# Altium schematic symbol library Amplifier_Operational.SchLib: 326 symbols (part 1 of 4)
Pins are listed as number, name and electrical type; pins without a type are passive.

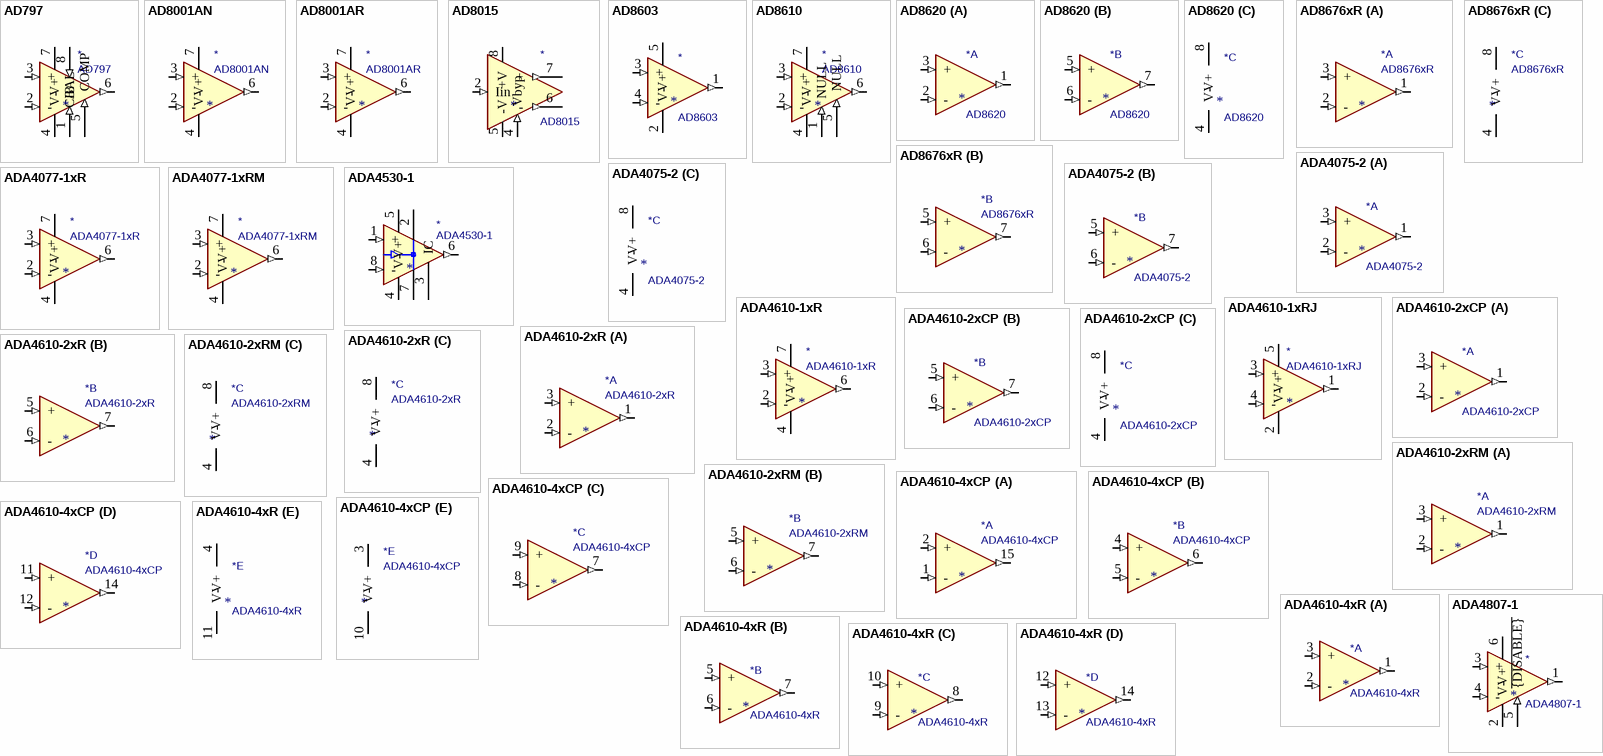
[diagram p0: symbols AD797 to ADA4807-1]

## AD797
designator *  value AD797
ki_keywords: single opamp; ki_description: Ultralow Distortion, Ultralow Noise Op Amp, DIP-8/SOIC-8; ki_fp_filters: DIP*W7.62mm* SOIC*3.9x4.9mm*P1.27mm* TO?5*; Supplier: https://www.analog.com/media/en/technical-documentation/data-sheets/AD797.pdf
pins: 1 BAL (in), 2 - (in), 3 + (in), 4 V- (power), 5 COMP (in), 6 (out), 7 V+ (power), 8 C/B (in)

## AD8001AN
designator *  value AD8001AN
ki_keywords: single opamp; ki_description: Current Feedback Amplifier, 800 MHz, 50mW, DIP-8; ki_fp_filters: DIP*W7.62mm*; Footprint: Package_DIP:DIP-8_W7.62mm; Supplier: https://www.analog.com/media/en/technical-documentation/data-sheets/ad8001.pdf
footprint DIP-8_W7.62mm
pins: 1 NC (in) hidden, 2 - (in), 3 + (in), 4 V- (power), 5 NC (in) hidden, 6 (out), 7 V+ (power), 8 NC (in) hidden

## AD8001AR
designator *  value AD8001AR
ki_keywords: single opamp; ki_description: Current Feedback Amplifier, 800 MHz, 50mW, SOIC-8; ki_fp_filters: SOIC*3.9x4.9mm*P1.27mm*; Footprint: Package_SO:SOIC-8_3.9x4.9mm_P1.27mm; Supplier: https://www.analog.com/media/en/technical-documentation/data-sheets/ad8001.pdf
footprint SOIC-8_3.9x4.9mm_P1.27mm
pins: 1 NC (in) hidden, 2 - (in), 3 + (in), 4 V- (power), 5 NC (in) hidden, 6 (out), 7 V+ (power), 8 NC (in) hidden

## AD8015
designator *  value AD8015
ki_keywords: amplifier transimpedance differential optical receiver; ki_description: Wideband/Differential Output Transimpedance Amplifier, SOIC-8; ki_fp_filters: SOIC*3.9x4.9mm*P1.27mm*; Footprint: Package_SO:SOIC-8_3.9x4.9mm_P1.27mm; Supplier: https://www.analog.com/media/en/technical-documentation/data-sheets/AD8015.pdf
footprint SOIC-8_3.9x4.9mm_P1.27mm
pins: 1 NC (in) hidden, 2 Iin (in), 3 NC (in) hidden, 4 Vbyp (in), 5 -V (power), 6 - (out), 7 + (out), 8 +V (power)

## AD8603
designator *  value AD8603
ki_keywords: single opamp; ki_description: Precision Micropower, Low Noise CMOS, Rail-to-Rail Input/Output Operational Amplifier, TSOT-23-5; ki_fp_filters: TSOT*23*; Footprint: Package_TO_SOT_SMD:TSOT-23-5; Supplier: https://www.analog.com/media/en/technical-documentation/data-sheets/AD8603_8607_8609.pdf
footprint TSOT-23-5
pins: 1 (out), 2 V- (power), 3 + (in), 4 - (in), 5 V+ (power)

## AD8610
designator *  value AD8610
ki_keywords: single opamp; ki_description: Single Precision, Very Low Noise, Low Input Bias Current, Wide Bandwidth JFET Operational Amplifiers, SOIC-8; ki_fp_filters: SOIC*3.9x4.9mm*P1.27mm* DIP*W7.62mm* TSSOP*3x3mm*P0.65mm*; Supplier: https://www.analog.com/media/en/technical-documentation/data-sheets/AD8610_8620.pdf
pins: 1 NULL (in), 2 - (in), 3 + (in), 4 V- (power), 5 NULL (in), 6 (out), 7 V+ (power), 8 NC (in) hidden

## AD8620
designator *  value AD8620
ki_keywords: dual opamp; ki_description: Dual Precision, Very Low Noise, Low Input Bias Current, Wide Bandwidth JFET Operational Amplifiers, SOIC-8; ki_fp_filters: SOIC*3.9x4.9mm*P1.27mm* DIP*W7.62mm* TO*99* OnSemi*Micro8* TSSOP*3x3mm*P0.65mm* TSSOP*4.4x3mm*P0.65mm* MSOP*3x3mm*P0.65mm* SSOP*3.9x4.9mm*P0.635mm* LFCSP*2x2mm*P0.5mm* *SIP* SOIC*5.3x6.2mm*P1.27mm*; Supplier: https://www.analog.com/media/en/technical-documentation/data-sheets/AD8610_8620.pdf
part A pins: 1 (out), 2 - (in), 3 + (in)
part B pins: 5 + (in), 6 - (in), 7 (out)
part C pins: 4 V- (power), 8 V+ (power)

## AD8676xR
designator *  value AD8676xR
ki_keywords: dual opamp precision high-voltage RRO RTR; ki_description: Dual operational amplifier, Ultra-precision, 36V, Rail-to-rail output, SOIC-8; ki_fp_filters: SOIC*3.9x4.9mm*P1.27mm*; Footprint: Package_SO:SOIC-8_3.9x4.9mm_P1.27mm; Supplier: https://www.analog.com/media/en/technical-documentation/data-sheets/AD8676.pdf
footprint SOIC-8_3.9x4.9mm_P1.27mm
part A pins: 1 (out), 2 - (in), 3 + (in)
part B pins: 5 + (in), 6 - (in), 7 (out)
part C pins: 4 V- (power), 8 V+ (power)

## ADA4075-2
designator *  value ADA4075-2
ki_keywords: dual low-power opamp; ki_description: Ultralow Noise Amplifier at Lower Power, SOIC-8/LFCSP-8; ki_fp_filters: SOIC*3.9x4.9mm*P1.27mm* DIP*W7.62mm* TO*99* OnSemi*Micro8* TSSOP*3x3mm*P0.65mm* TSSOP*4.4x3mm*P0.65mm* MSOP*3x3mm*P0.65mm* SSOP*3.9x4.9mm*P0.635mm* LFCSP*2x2mm*P0.5mm* *SIP* SOIC*5.3x6.2mm*P1.27mm*; Supplier: https://www.analog.com/static/imported-files/data_sheets/ADA4075-2.pdf
part A pins: 1 (out), 2 - (in), 3 + (in)
part B pins: 5 + (in), 6 - (in), 7 (out)
part C pins: 4 V- (power), 8 V+ (power)

## ADA4077-1xR
designator *  value ADA4077-1xR
ki_keywords: single opamp; ki_description: 4MHz, 7nV/sqrtHz, Low Offset and Drift, High Precision Amplifier, SOIC-8; ki_fp_filters: SOIC*3.9x4.9mm*P1.27mm*; Footprint: Package_SO:SOIC-8_3.9x4.9mm_P1.27mm; Supplier: https://www.analog.com/media/en/technical-documentation/data-sheets/ADA4077-1_4077-2_4077-4.pdf
footprint SOIC-8_3.9x4.9mm_P1.27mm
pins: 1 NC (in) hidden, 2 - (in), 3 + (in), 4 V- (power), 5 NC (in) hidden, 6 (out), 7 V+ (power), 8 NC (in) hidden

## ADA4077-1xRM
designator *  value ADA4077-1xRM
ki_keywords: single opamp; ki_description: 4MHz, 7nV/sqrtHz, Low Offset and Drift, High Precision Amplifier, MSOP-8; ki_fp_filters: MSOP*3x3mm*P0.65mm*; Footprint: Package_SO:MSOP-8_3x3mm_P0.65mm; Supplier: https://www.analog.com/media/en/technical-documentation/data-sheets/ADA4077-1_4077-2_4077-4.pdf
footprint MSOP-8_3x3mm_P0.65mm
pins: 1 NC (in) hidden, 2 - (in), 3 + (in), 4 V- (power), 5 NC (in) hidden, 6 (out), 7 V+ (power), 8 NC (in) hidden

## ADA4530-1
designator *  value ADA4530-1
ki_keywords: single opamp; ki_description: Femtoampere Input Bias Current Electrometer Amplifier, SOIC-8; ki_fp_filters: SOIC*3.9x4.9mm*P1.27mm*; Footprint: Package_SO:SOIC-8_3.9x4.9mm_P1.27mm; Supplier: https://www.analog.com/media/en/technical-documentation/data-sheets/ADA4530-1.pdf
footprint SOIC-8_3.9x4.9mm_P1.27mm
pins: 1 + (in), 2, 3 IC, 4 V- (power), 5 V+ (power), 6 (out), 7, 8 - (in)

## ADA4610-1xR
designator *  value ADA4610-1xR
ki_keywords: single opamp; ki_description: Low Noise, Precision, Rail-to-Rail Output, JFET Single Op Amp, SOIC-8; ki_fp_filters: SOIC*3.9x4.9mm*P1.27mm*; Footprint: Package_SO:SOIC-8_3.9x4.9mm_P1.27mm; Supplier: https://www.analog.com/media/en/technical-documentation/data-sheets/ADA4610-1_4610-2_4610-4.pdf
footprint SOIC-8_3.9x4.9mm_P1.27mm
pins: 1 NC (in) hidden, 2 - (in), 3 + (in), 4 V- (power), 5 NC (in) hidden, 6 (out), 7 V+ (power), 8 NC (in) hidden

## ADA4610-1xRJ
designator *  value ADA4610-1xRJ
ki_keywords: single opamp; ki_description: Low Noise, Precision, Rail-to-Rail Output, JFET Single Op Amp, SOT-23-5; ki_fp_filters: SOT?23*; Footprint: Package_TO_SOT_SMD:SOT-23-5; Supplier: https://www.analog.com/media/en/technical-documentation/data-sheets/ADA4610-1_4610-2_4610-4.pdf
footprint SOT-23-5
pins: 1 (out), 2 V- (power), 3 + (in), 4 - (in), 5 V+ (power)

## ADA4610-2xCP
designator *  value ADA4610-2xCP
ki_keywords: dual opamp; ki_description: Dual Low Noise, Precision, Rail-to-Rail Output, JFET Op Amp, LFCSP-8; ki_fp_filters: LFCSP*3x3mm*P0.5mm*EP1.6x2.34mm*; Footprint: Package_CSP:LFCSP-8-1EP_3x3mm_P0.5mm_EP1.6x2.34mm; Supplier: https://www.analog.com/media/en/technical-documentation/data-sheets/ADA4610-1_4610-2_4610-4.pdf
footprint LFCSP-8-1EP_3x3mm_P0.5mm_EP1.6x2.34mm
part A pins: 1 (out), 2 - (in), 3 + (in)
part B pins: 5 + (in), 6 - (in), 7 (out)
part C pins: 4 V- (power), 8 V+ (power), 9 V- hidden

## ADA4610-2xR
designator *  value ADA4610-2xR
ki_keywords: dual opamp; ki_description: Dual Low Noise, Precision, Rail-to-Rail Output, JFET Op Amp, SOIC-8; ki_fp_filters: SOIC*3.9x4.9mm*P1.27mm*; Footprint: Package_SO:SOIC-8_3.9x4.9mm_P1.27mm; Supplier: https://www.analog.com/media/en/technical-documentation/data-sheets/ADA4610-1_4610-2_4610-4.pdf
footprint SOIC-8_3.9x4.9mm_P1.27mm
part A pins: 1 (out), 2 - (in), 3 + (in)
part B pins: 5 + (in), 6 - (in), 7 (out)
part C pins: 4 V- (power), 8 V+ (power)

## ADA4610-2xRM
designator *  value ADA4610-2xRM
ki_keywords: dual opamp; ki_description: Dual Low Noise, Precision, Rail-to-Rail Output, JFET Op Amp, MSOP-8; ki_fp_filters: MSOP*3x3mm*P0.65mm*; Footprint: Package_SO:MSOP-8_3x3mm_P0.65mm; Supplier: https://www.analog.com/media/en/technical-documentation/data-sheets/ADA4610-1_4610-2_4610-4.pdf
footprint MSOP-8_3x3mm_P0.65mm
part A pins: 1 (out), 2 - (in), 3 + (in)
part B pins: 5 + (in), 6 - (in), 7 (out)
part C pins: 4 V- (power), 8 V+ (power)

## ADA4610-4xCP
designator *  value ADA4610-4xCP
ki_keywords: quad opamp; ki_description: Quad Low Noise, Precision, Rail-to-Rail Output, JFET Op Amp, LFCSP-16; ki_fp_filters: LFCSP*4x4mm*P0.65mm*EP2.1x2.1mm*; Footprint: Package_CSP:LFCSP-16-1EP_4x4mm_P0.65mm_EP2.1x2.1mm; Supplier: https://www.analog.com/media/en/technical-documentation/data-sheets/ADA4610-1_4610-2_4610-4.pdf
footprint LFCSP-16-1EP_4x4mm_P0.65mm_EP2.1x2.1mm
part A pins: 1 - (in), 2 + (in), 13 NIC (in) hidden, 15 (out), 16 NIC (in) hidden
part B pins: 4 + (in), 5 - (in), 6 (out)
part C pins: 7 (out), 8 - (in), 9 + (in)
part D pins: 11 + (in), 12 - (in), 14 (out)
part E pins: 3 V+ (power), 10 V- (power), 17 V- hidden

## ADA4610-4xR
designator *  value ADA4610-4xR
ki_keywords: quad opamp low-power; ki_description: Quad Low Noise, Precision, Rail-to-Rail Output, JFET Single Op Amp, SOIC-14; ki_fp_filters: SOIC*3.9x8.7mm*P1.27mm*; Footprint: Package_SO:SOIC-14_3.9x8.7mm_P1.27mm; Supplier: https://www.analog.com/media/en/technical-documentation/data-sheets/ADA4610-1_4610-2_4610-4.pdf
footprint SOIC-14_3.9x8.7mm_P1.27mm
part A pins: 1 (out), 2 - (in), 3 + (in)
part B pins: 5 + (in), 6 - (in), 7 (out)
part C pins: 8 (out), 9 - (in), 10 + (in)
part D pins: 12 + (in), 13 - (in), 14 (out)
part E pins: 4 V+ (power), 11 V- (power)

## ADA4807-1
designator *  value ADA4807-1
ki_keywords: single opamp; ki_description: Single Rail-to-Rail Input/Output Amplifiers, with disable, SC-70-6/SOT-23-6; ki_fp_filters: *SC*70* SOT?23*; Supplier: https://www.analog.com/media/en/technical-documentation/data-sheets/ADA4807-1_4807-2_4807-4.pdf
pins: 1 (out), 2 V- (power), 3 + (in), 4 - (in), 5 ~{{DISABLE}} (in), 6 V+ (power)

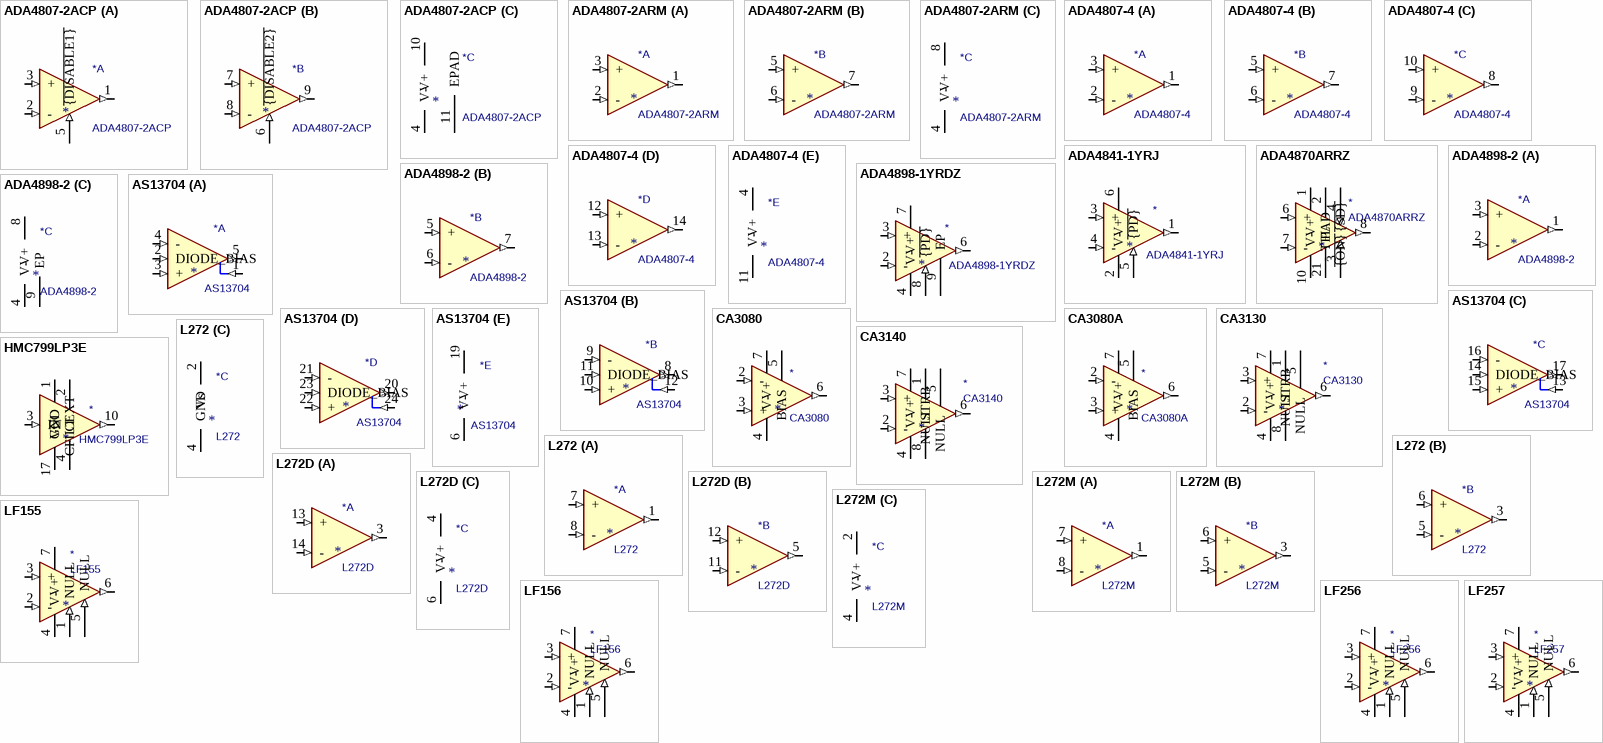
[diagram p1: symbols ADA4807-2ACP to LF257]

## ADA4807-2ACP
designator *  value ADA4807-2ACP
ki_keywords: dual opamp; ki_description: Dual Rail-to-Rail Input/Output Amplifiers, with disable, SC-70-6/SOT-23-6; ki_fp_filters: DFN*3x3mm*P0.5mm*; Footprint: Package_DFN_QFN:DFN-10-1EP_3x3mm_P0.5mm_EP1.55x2.48mm; Supplier: https://www.analog.com/media/en/technical-documentation/data-sheets/ADA4807-1_4807-2_4807-4.pdf
footprint DFN-10-1EP_3x3mm_P0.5mm_EP1.55x2.48mm
part A pins: 1 (out), 2 - (in), 3 + (in), 5 ~{{DISABLE1}} (in)
part B pins: 6 ~{{DISABLE2}} (in), 7 + (in), 8 - (in), 9 (out)
part C pins: 4 V- (power), 10 V+ (power), 11 EPAD (power)

## ADA4807-2ARM
designator *  value ADA4807-2ARM
ki_keywords: dual opamp; ki_description: Dual Rail-to-Rail Input/Output Amplifiers, MSOP-8; ki_fp_filters: SOIC*3.9x4.9mm*P1.27mm* DIP*W7.62mm* TO*99* OnSemi*Micro8* TSSOP*3x3mm*P0.65mm* TSSOP*4.4x3mm*P0.65mm* MSOP*3x3mm*P0.65mm* SSOP*3.9x4.9mm*P0.635mm* LFCSP*2x2mm*P0.5mm* *SIP* SOIC*5.3x6.2mm*P1.27mm*; Supplier: https://www.analog.com/media/en/technical-documentation/data-sheets/ADA4807-1_4807-2_4807-4.pdf
part A pins: 1 (out), 2 - (in), 3 + (in)
part B pins: 5 + (in), 6 - (in), 7 (out)
part C pins: 4 V- (power), 8 V+ (power)

## ADA4807-4
designator *  value ADA4807-4
ki_keywords: quad opamp; ki_description: Quad Rail-to-Rail Input/Output Amplifiers, TSSOP-14; ki_fp_filters: SOIC*3.9x8.7mm*P1.27mm* DIP*W7.62mm* TSSOP*4.4x5mm*P0.65mm* SSOP*5.3x6.2mm*P0.65mm* MSOP*3x3mm*P0.5mm*; Supplier: https://www.analog.com/media/en/technical-documentation/data-sheets/ADA4807-1_4807-2_4807-4.pdf
part A pins: 1 (out), 2 - (in), 3 + (in)
part B pins: 5 + (in), 6 - (in), 7 (out)
part C pins: 8 (out), 9 - (in), 10 + (in)
part D pins: 12 + (in), 13 - (in), 14 (out)
part E pins: 4 V+ (power), 11 V- (power)

## ADA4841-1YRJ
designator *  value ADA4841-1YRJ
ki_keywords: single opamp low-noise rail-to-rail; ki_description: Low Power, Low Noise and Distorsion, Rail-to-Rail Output Amplifier, SOT-23-6; ki_fp_filters: SOT?23*; Footprint: Package_TO_SOT_SMD:SOT-23-6; Supplier: https://www.analog.com/media/en/technical-documentation/data-sheets/ADA4841-1_4841-2.pdf
footprint SOT-23-6
pins: 1 (out), 2 V- (power), 3 + (in), 4 - (in), 5 ~{{PD}} (in), 6 V+ (power)

## ADA4870ARRZ
designator *  value ADA4870ARRZ
ki_keywords: single opamp; ki_description: High Speed, High Voltage, 1A Output Drive Amplifier, PSOP-20; ki_fp_filters: HSOP*1EP*11.0x15.9mm*P1.27mm*SlugDown*; Footprint: Package_SO:HSOP-20-1EP_11.0x15.9mm_P1.27mm_SlugDown_ThermalVias; Supplier: www.analog.com/media/en/technical-documentation/data-sheets/ADA4870.pdf
footprint HSOP-20-1EP_11.0x15.9mm_P1.27mm_SlugDown_ThermalVias
pins: 1 V+ (power), 2 TFL, 3 ~{{SD}} (in), 4 ~{{ON}} (in), 5 NC (in) hidden, 6 + (in), 7 - (in), 8 (out), 9 NC (in) hidden, 10 V- (power), 11 V- hidden, 12 V- hidden, 13 V- hidden, 14 hidden, 15 hidden, 16 hidden, 17 hidden, 18 V+ hidden, 19 V+ hidden, 20 V+ hidden, 21 PAD

## ADA4898-1YRDZ
designator *  value ADA4898-1YRDZ
ki_keywords: opamp single low noise low distortion; ki_description: High Voltage, Low Noise, Low Distortion, Unity-Gain Stable, High Speed Op Amp, SOIC-8; ki_fp_filters: SOIC*1EP*3.9x4.9mm*P1.27mm*; Footprint: Package_SO:SOIC-8-1EP_3.9x4.9mm_P1.27mm_EP2.29x3mm; Supplier: https://www.analog.com/media/en/technical-documentation/data-sheets/ada4898-1_4898-2.pdf
footprint SOIC-8-1EP_3.9x4.9mm_P1.27mm_EP2.29x3mm
pins: 2 - (in), 3 + (in), 4 V- (power), 6 (out), 7 V+ (power), 8 ~{{PD}} (in), 9 EP

## ADA4898-2
designator *  value ADA4898-2
ki_keywords: opamp dual low noise low distortion; ki_description: Dual High Voltage, Low Noise, Low Distortion, Unity-Gain Stable, High Speed Op Amp, SOIC-8-1EP; ki_fp_filters: SOIC*1EP*3.9x4.9mm*P1.27mm*; Footprint: Package_SO:SOIC-8-1EP_3.9x4.9mm_P1.27mm_EP2.41x3.81mm; Supplier: https://www.analog.com/media/en/technical-documentation/data-sheets/ada4898-1_4898-2.pdf
footprint SOIC-8-1EP_3.9x4.9mm_P1.27mm_EP2.41x3.81mm
part A pins: 1 (out), 2 - (in), 3 + (in)
part B pins: 5 + (in), 6 - (in), 7 (out)
part C pins: 4 V- (power), 8 V+ (power), 9 EP

## AS13704
designator *  value AS13704
ki_keywords: operational transconductance amplifier OTA; ki_description: Quad Operational Transconductance Amplifiers (OTA), with linearizing diodes, SSOP24; ki_fp_filters: SSOP*3.9x8.7mm*P0.635mm*; Footprint: Package_SO:SSOP-24_3.9x8.7mm_P0.635mm; Supplier: http://www.alfarzpp.lv/eng/sc/AS13704.pdf
footprint SSOP-24_3.9x8.7mm_P0.635mm
part A pins: 1 (in), 2 DIODE_BIAS (in), 3 + (in), 4 - (in), 5 (out), 7 NC (in) hidden, 18 NC (in) hidden
part B pins: 8 (out), 9 - (in), 10 + (in), 11 DIODE_BIAS (in), 12 (in)
part C pins: 13 (in), 14 DIODE_BIAS (in), 15 + (in), 16 - (in), 17 (out)
part D pins: 20 (out), 21 - (in), 22 + (in), 23 DIODE_BIAS (in), 24 (in)
part E pins: 6 V- (power), 19 V+ (power)

## CA3080
designator *  value CA3080
ki_keywords: operational transconductance amplifier ota; ki_description: 2MHz, Operational Transconductance Amplifier (OTA), gM spread 2:1, DIP-8/SOIC-8; ki_fp_filters: DIP*W7.62mm* SOIC*3.9x4.9mm*P1.27mm*; Supplier: http://www.intersil.com/content/dam/Intersil/documents/ca30/ca3080-a.pdf
pins: 1 NC (in) hidden, 2 - (in), 3 + (in), 4 V- (power), 5 BIAS, 6 (out), 7 V+ (power), 8 NC (in) hidden

## CA3080A
designator *  value CA3080A
ki_keywords: operational transconductance amplifier ota; ki_description: 2MHz, Operational Transconductance Amplifier (OTA), gM spread 1.6:1, DIP-8/SOIC-8; ki_fp_filters: DIP*W7.62mm* SOIC*3.9x4.9mm*P1.27mm*; Supplier: http://www.intersil.com/content/dam/Intersil/documents/ca30/ca3080-a.pdf
pins: 1 NC (in) hidden, 2 - (in), 3 + (in), 4 V- (power), 5 BIAS, 6 (out), 7 V+ (power), 8 NC (in) hidden

## CA3130
designator *  value CA3130
ki_keywords: single opamp; ki_description: 15MHz, BiMOS Operational Amplifier with MOSFET Input/CMOS Output, DIP-8/SOIC-8; ki_fp_filters: DIP*W7.62mm* SOIC*3.9x4.9mm*P1.27mm*; Supplier: http://www.intersil.com/content/dam/intersil/documents/ca31/ca3130-a.pdf
pins: 1 NULL, 2 - (in), 3 + (in), 4 V- (power), 5 NULL, 6 (out), 7 V+ (power), 8 STRB

## CA3140
designator *  value CA3140
ki_keywords: single opamp; ki_description: 4.5MHz, BiMOS Operational Amplifier with MOSFET Input/Bipolar Output, DIP-8/SOIC-8; ki_fp_filters: DIP*W7.62mm* SOIC*3.9x4.9mm*P1.27mm*; Supplier: http://www.intersil.com/content/dam/intersil/documents/ca31/ca3140-a.pdf
pins: 1 NULL, 2 - (in), 3 + (in), 4 V- (power), 5 NULL, 6 (out), 7 V+ (power), 8 STRB

## HMC799LP3E
designator *  value HMC799LP3E
ki_keywords: amplifier transimpedance; ki_description: DC - 700 MHz, 10 kOhm Transimpedance amplifier, QFN-16; ki_fp_filters: QFN*1EP*3x3mm*P0.5mm*; Footprint: Package_DFN_QFN:QFN-16-1EP_3x3mm_P0.5mm_EP1.75x1.75mm; Supplier: https://www.analog.com/media/en/technical-documentation/data-sheets/hmc799.pdf
footprint QFN-16-1EP_3x3mm_P0.5mm_EP1.75x1.75mm
pins: 1 VCC (power), 2 CFILT, 3 IN (in), 4 CEXT, 5 NC (in) hidden, 6 NC (in) hidden, 7 NC (in) hidden, 8 NC (in) hidden, 9 NC (in) hidden, 10 (out), 11 NC (in) hidden, 12 VCC hidden, 13 NC (in) hidden, 14 VCC hidden, 15 NC (in) hidden, 16 NC (in) hidden, 17 GND (power)

## L272
designator *  value L272
ki_keywords: dual power opamp; ki_description: Dual Power Operation Amplifier, DIP-16; ki_fp_filters: *DIP*W7.62mm*; Footprint: Package_DIP:DIP-16_W7.62mm; Supplier: www.st.com/resource/en/datasheet/l272.pdf
footprint DIP-16_W7.62mm
part A pins: 1 (out), 7 + (in), 8 - (in)
part B pins: 3 (out), 5 - (in), 6 + (in)
part C pins: 2 Vs (power), 4 GND (power), 9 GND hidden, 10 GND hidden, 11 GND hidden, 12 GND hidden, 13 GND hidden, 14 GND hidden, 15 GND hidden, 16 GND hidden

## L272D
designator *  value L272D
ki_keywords: dual power opamp; ki_description: Dual Power Operation Amplifier, SOIC-16; ki_fp_filters: *SOIC*3.9x9.9mm*P1.27mm*; Footprint: Package_SO:SOIC-16_3.9x9.9mm_P1.27mm; Supplier: www.st.com/resource/en/datasheet/l272.pdf
footprint SOIC-16_3.9x9.9mm_P1.27mm
part A pins: 1 NC (in) hidden, 2 NC (in) hidden, 3 (out), 7 NC (in) hidden, 8 NC (in) hidden, 13 + (in), 14 - (in)
part B pins: 5 (out), 9 NC (in) hidden, 10 NC (in) hidden, 11 - (in), 12 + (in), 15 NC (in) hidden, 16 NC (in) hidden
part C pins: 4 V+ (power), 6 V- (power)

## L272M
designator *  value L272M
ki_keywords: dual power opamp; ki_description: Dual Power Operation Amplifier, DIP-8; ki_fp_filters: *DIP*W7.62mm*; Footprint: Package_DIP:DIP-8_W7.62mm_LongPads; Supplier: www.st.com/resource/en/datasheet/l272.pdf
footprint DIP-8_W7.62mm_LongPads
part A pins: 1 (out), 7 + (in), 8 - (in)
part B pins: 3 (out), 5 - (in), 6 + (in)
part C pins: 2 V+ (power), 4 V- (power)

## LF155
designator *  value LF155
ki_keywords: single jfet opamp; ki_description: Single JFET Input Operational Amplifiers, DIP-8/SOIC-8; ki_fp_filters: SOIC*3.9x4.9mm*P1.27mm* DIP*W7.62mm* TSSOP*3x3mm*P0.65mm*; Supplier: http://www.ti.com/lit/ds/symlink/lf357.pdf
pins: 1 NULL (in), 2 - (in), 3 + (in), 4 V- (power), 5 NULL (in), 6 (out), 7 V+ (power), 8 NC (in) hidden

## LF156
designator *  value LF156
ki_keywords: single jfet opamp; ki_description: Single JFET Input Operational Amplifiers, DIP-8/SOIC-8; ki_fp_filters: SOIC*3.9x4.9mm*P1.27mm* DIP*W7.62mm* TSSOP*3x3mm*P0.65mm*; Supplier: http://www.ti.com/lit/ds/symlink/lf357.pdf
pins: 1 NULL (in), 2 - (in), 3 + (in), 4 V- (power), 5 NULL (in), 6 (out), 7 V+ (power), 8 NC (in) hidden

## LF256
designator *  value LF256
ki_keywords: single jfet opamp; ki_description: Single JFET Input Operational Amplifiers, DIP-8/SOIC-8; ki_fp_filters: SOIC*3.9x4.9mm*P1.27mm* DIP*W7.62mm* TSSOP*3x3mm*P0.65mm*; Supplier: http://www.ti.com/lit/ds/symlink/lf357.pdf
pins: 1 NULL (in), 2 - (in), 3 + (in), 4 V- (power), 5 NULL (in), 6 (out), 7 V+ (power), 8 NC (in) hidden

## LF257
designator *  value LF257
ki_keywords: single jfet opamp; ki_description: Single JFET Input Operational Amplifiers, DIP-8/SOIC-8; ki_fp_filters: SOIC*3.9x4.9mm*P1.27mm* DIP*W7.62mm* TSSOP*3x3mm*P0.65mm*; Supplier: http://www.ti.com/lit/ds/symlink/lf357.pdf
pins: 1 NULL (in), 2 - (in), 3 + (in), 4 V- (power), 5 NULL (in), 6 (out), 7 V+ (power), 8 NC (in) hidden

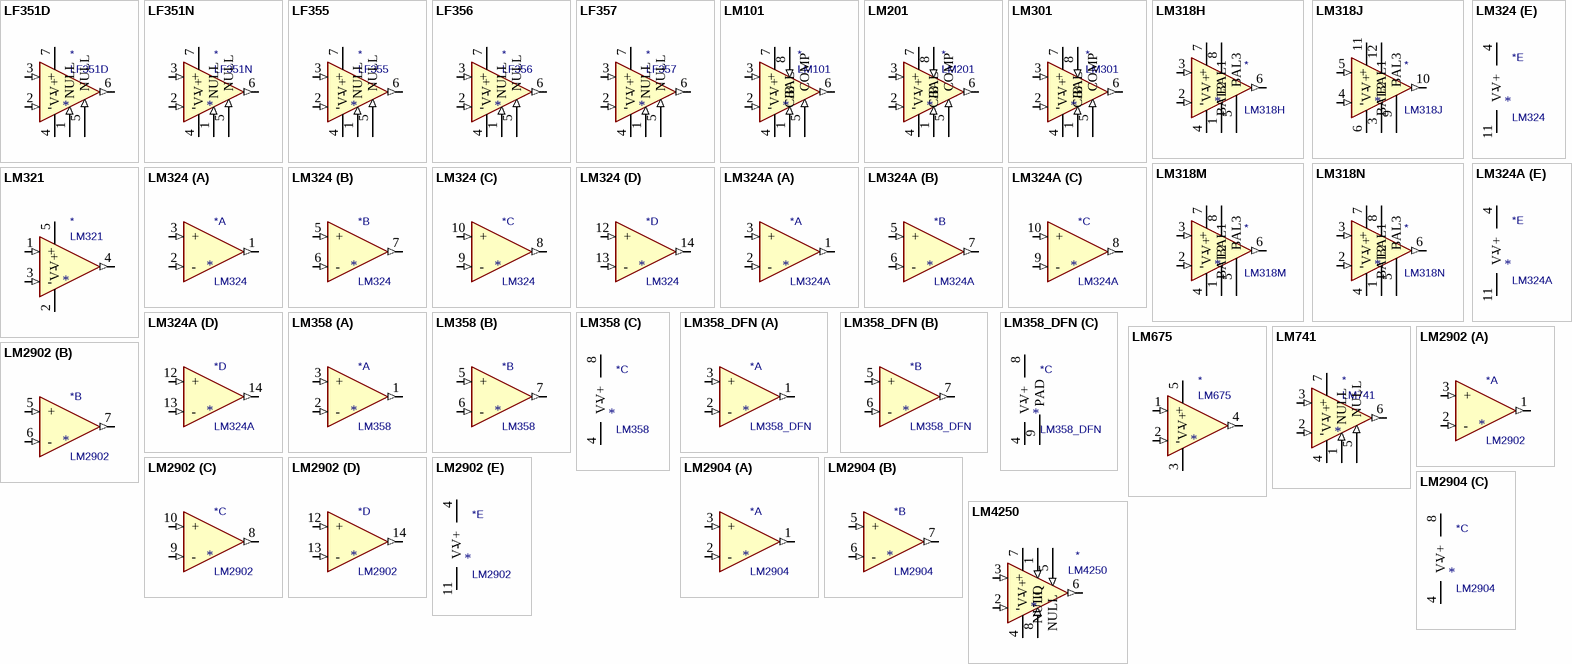
[diagram p2: symbols LF351D to LM4250]

## LF351D
designator *  value LF351D
ki_keywords: Single OpAmp JFET; ki_description: Wide bandwidth single JFET operational amplifier, SOIC-8; ki_fp_filters: SOIC*3.9x4.9mm*P1.27mm*; Supplier: https://www.st.com/resource/en/datasheet/lf351.pdf
pins: 1 NULL (in), 2 - (in), 3 + (in), 4 V- (power), 5 NULL (in), 6 (out), 7 V+ (power), 8 NC (in) hidden

## LF351N
designator *  value LF351N
ki_keywords: Single OpAmp JFET; ki_description: Wide bandwidth single JFET operational amplifier, DIP-8; ki_fp_filters: DIP*W7.62mm*; Supplier: https://www.st.com/resource/en/datasheet/lf351.pdf
pins: 1 NULL (in), 2 - (in), 3 + (in), 4 V- (power), 5 NULL (in), 6 (out), 7 V+ (power), 8 NC (in) hidden

## LF355
designator *  value LF355
ki_keywords: single jfet opamp; ki_description: Single JFET Input Operational Amplifiers, DIP-8/SOIC-8; ki_fp_filters: SOIC*3.9x4.9mm*P1.27mm* DIP*W7.62mm* TSSOP*3x3mm*P0.65mm*; Supplier: http://www.ti.com/lit/ds/symlink/lf357.pdf
pins: 1 NULL (in), 2 - (in), 3 + (in), 4 V- (power), 5 NULL (in), 6 (out), 7 V+ (power), 8 NC (in) hidden

## LF356
designator *  value LF356
ki_keywords: single jfet opamp; ki_description: Single JFET Input Operational Amplifiers, DIP-8/SOIC-8; ki_fp_filters: SOIC*3.9x4.9mm*P1.27mm* DIP*W7.62mm* TSSOP*3x3mm*P0.65mm*; Supplier: http://www.ti.com/lit/ds/symlink/lf357.pdf
pins: 1 NULL (in), 2 - (in), 3 + (in), 4 V- (power), 5 NULL (in), 6 (out), 7 V+ (power), 8 NC (in) hidden

## LF357
designator *  value LF357
ki_keywords: single jfet opamp; ki_description: Single JFET Input Operational Amplifiers, DIP-8/SOIC-8; ki_fp_filters: SOIC*3.9x4.9mm*P1.27mm* DIP*W7.62mm* TSSOP*3x3mm*P0.65mm*; Supplier: http://www.ti.com/lit/ds/symlink/lf357.pdf
pins: 1 NULL (in), 2 - (in), 3 + (in), 4 V- (power), 5 NULL (in), 6 (out), 7 V+ (power), 8 NC (in) hidden

## LM101
designator *  value LM101
ki_keywords: single opamp; ki_description: Operational Amplifier, DIP-8/TO-99-8; ki_fp_filters: DIP*W7.62mm* SOIC*3.9x4.9mm*P1.27mm* TO?5*; Supplier: http://www.ti.com/lit/ds/symlink/lm101a-n.pdf
pins: 1 BAL (in), 2 - (in), 3 + (in), 4 V- (power), 5 COMP (in), 6 (out), 7 V+ (power), 8 C/B (in)

## LM201
designator *  value LM201
ki_keywords: single opamp; ki_description: Operational Amplifier, DIP-8/TO-99-8; ki_fp_filters: DIP*W7.62mm* SOIC*3.9x4.9mm*P1.27mm* TO?5*; Supplier: http://www.ti.com/lit/ds/symlink/lm101a-n.pdf
pins: 1 BAL (in), 2 - (in), 3 + (in), 4 V- (power), 5 COMP (in), 6 (out), 7 V+ (power), 8 C/B (in)

## LM301
designator *  value LM301
ki_keywords: single opamp; ki_description: Operational Amplifier, DIP-8/TO-99-8; ki_fp_filters: DIP*W7.62mm* SOIC*3.9x4.9mm*P1.27mm* TO?5*; Supplier: http://www.ti.com/lit/ds/symlink/lm101a-n.pdf
pins: 1 BAL (in), 2 - (in), 3 + (in), 4 V- (power), 5 COMP (in), 6 (out), 7 V+ (power), 8 C/B (in)

## LM318H
designator *  value LM318H
ki_keywords: single opamp; ki_description: Operational Amplifier, TO-99-8; ki_fp_filters: SOIC*3.9x4.9mm*P1.27mm* DIP*W7.62mm* TO*99*; Supplier: http://www.ti.com/lit/ds/symlink/lm318-n.pdf
pins: 1 BAL1, 2 - (in), 3 + (in), 4 V- (power), 5 BAL3, 6 (out), 7 V+ (power), 8 BAL2

## LM318J
designator *  value LM318J
ki_keywords: single opamp; ki_description: Operational Amplifier, DIP-14; ki_fp_filters: DIP*W7.62mm*; Footprint: Package_DIP:DIP-14_W7.62mm; Supplier: http://www.ti.com/lit/ds/symlink/lm318-n.pdf
footprint DIP-14_W7.62mm
pins: 1 NC (in) hidden, 2 NC (in) hidden, 3 BAL1, 4 - (in), 5 + (in), 6 V- (power), 7 NC (in) hidden, 8 NC (in) hidden, 9 BAL3, 10 (out), 11 V+ (power), 12 BAL2, 13 NC (in) hidden, 14 NC (in) hidden

## LM318M
designator *  value LM318M
ki_keywords: single opamp; ki_description: Operational Amplifier, SOIC-8; ki_fp_filters: SOIC*3.9x4.9mm*P1.27mm* DIP*W7.62mm* TO*99*; Supplier: http://www.ti.com/lit/ds/symlink/lm318-n.pdf
pins: 1 BAL1, 2 - (in), 3 + (in), 4 V- (power), 5 BAL3, 6 (out), 7 V+ (power), 8 BAL2

## LM318N
designator *  value LM318N
ki_keywords: single opamp; ki_description: Operational Amplifier, DIP-8; ki_fp_filters: SOIC*3.9x4.9mm*P1.27mm* DIP*W7.62mm* TO*99*; Supplier: http://www.ti.com/lit/ds/symlink/lm318-n.pdf
pins: 1 BAL1, 2 - (in), 3 + (in), 4 V- (power), 5 BAL3, 6 (out), 7 V+ (power), 8 BAL2

## LM321
designator *  value LM321
ki_keywords: single opamp; ki_description: Low Power Single Operational Amplifier, SOT-23-5; ki_fp_filters: SOT?23*; Footprint: Package_TO_SOT_SMD:SOT-23-5; Supplier: http://www.ti.com/lit/ds/symlink/lm321.pdf
footprint SOT-23-5
pins: 1 + (in), 2 V- (power), 3 - (in), 4 (out), 5 V+ (power)

## LM324
designator *  value LM324
ki_keywords: quad opamp; ki_description: Low-Power, Quad-Operational Amplifiers, DIP-14/SOIC-14/SSOP-14; ki_fp_filters: SOIC*3.9x8.7mm*P1.27mm* DIP*W7.62mm* TSSOP*4.4x5mm*P0.65mm* SSOP*5.3x6.2mm*P0.65mm* MSOP*3x3mm*P0.5mm*; Supplier: http://www.ti.com/lit/ds/symlink/lm2902-n.pdf
part A pins: 1 (out), 2 - (in), 3 + (in)
part B pins: 5 + (in), 6 - (in), 7 (out)
part C pins: 8 (out), 9 - (in), 10 + (in)
part D pins: 12 + (in), 13 - (in), 14 (out)
part E pins: 4 V+ (power), 11 V- (power)

## LM324A
designator *  value LM324A
ki_keywords: quad opamp; ki_description: Low-Power, Quad-Operational Amplifiers, DIP-14/SOIC-14/SSOP-14; ki_fp_filters: SOIC*3.9x8.7mm*P1.27mm* DIP*W7.62mm* TSSOP*4.4x5mm*P0.65mm* SSOP*5.3x6.2mm*P0.65mm* MSOP*3x3mm*P0.5mm*; Supplier: http://www.ti.com/lit/ds/symlink/lm2902-n.pdf
part A pins: 1 (out), 2 - (in), 3 + (in)
part B pins: 5 + (in), 6 - (in), 7 (out)
part C pins: 8 (out), 9 - (in), 10 + (in)
part D pins: 12 + (in), 13 - (in), 14 (out)
part E pins: 4 V+ (power), 11 V- (power)

## LM358
designator *  value LM358
ki_keywords: dual opamp; ki_description: Low-Power, Dual Operational Amplifiers, DIP-8/SOIC-8/TO-99-8; ki_fp_filters: SOIC*3.9x4.9mm*P1.27mm* DIP*W7.62mm* TO*99* OnSemi*Micro8* TSSOP*3x3mm*P0.65mm* TSSOP*4.4x3mm*P0.65mm* MSOP*3x3mm*P0.65mm* SSOP*3.9x4.9mm*P0.635mm* LFCSP*2x2mm*P0.5mm* *SIP* SOIC*5.3x6.2mm*P1.27mm*; Supplier: http://www.ti.com/lit/ds/symlink/lm2904-n.pdf
part A pins: 1 (out), 2 - (in), 3 + (in)
part B pins: 5 + (in), 6 - (in), 7 (out)
part C pins: 4 V- (power), 8 V+ (power)

## LM358_DFN
designator *  value LM358_DFN
ki_keywords: dual opamp; ki_description: Low-Power, Dual Operational Amplifiers, DFN-8; ki_fp_filters: DFN*2x2mm*P0.5mm*; Footprint: Package_DFN_QFN:DFN-8-1EP_2x2mm_P0.5mm_EP1.05x1.75mm; Supplier: www.st.com/resource/en/datasheet/lm358.pdf
footprint DFN-8-1EP_2x2mm_P0.5mm_EP1.05x1.75mm
part A pins: 1 (out), 2 - (in), 3 + (in)
part B pins: 5 + (in), 6 - (in), 7 (out)
part C pins: 4 V- (power), 8 V+ (power), 9 PAD (power)

## LM675
designator *  value LM675
ki_keywords: single opamp; ki_description: Power Operational Amplifier, TO-220-5; ki_fp_filters: TO?220?5*StaggerOdd*; Footprint: Package_TO_SOT_THT:TO-220-5_P3.4x3.7mm_StaggerOdd_Lead3.8mm_Vertical; Supplier: http://www.ti.com/lit/ds/symlink/lm675.pdf
footprint TO-220-5_P3.4x3.7mm_StaggerOdd_Lead3.8mm_Vertical
pins: 1 + (in), 2 - (in), 3 V- (power), 4 (out), 5 V+ (power)

## LM741
designator *  value LM741
ki_keywords: single opamp; ki_description: Operational Amplifier, DIP-8/TO-99-8; ki_fp_filters: SOIC*3.9x4.9mm*P1.27mm* DIP*W7.62mm* TSSOP*3x3mm*P0.65mm*; Supplier: http://www.ti.com/lit/ds/symlink/lm741.pdf
pins: 1 NULL (in), 2 - (in), 3 + (in), 4 V- (power), 5 NULL (in), 6 (out), 7 V+ (power), 8 NC (in) hidden

## LM2902
designator *  value LM2902
ki_keywords: quad opamp; ki_description: Low-Power, Quad-Operational Amplifiers, DIP-14/SOIC-14/SSOP-14; ki_fp_filters: SOIC*3.9x8.7mm*P1.27mm* DIP*W7.62mm* TSSOP*4.4x5mm*P0.65mm* SSOP*5.3x6.2mm*P0.65mm* MSOP*3x3mm*P0.5mm*; Supplier: http://www.ti.com/lit/ds/symlink/lm2902-n.pdf
part A pins: 1 (out), 2 - (in), 3 + (in)
part B pins: 5 + (in), 6 - (in), 7 (out)
part C pins: 8 (out), 9 - (in), 10 + (in)
part D pins: 12 + (in), 13 - (in), 14 (out)
part E pins: 4 V+ (power), 11 V- (power)

## LM2904
designator *  value LM2904
ki_keywords: dual opamp; ki_description: Dual Operational Amplifiers, DIP-8/SOIC-8/TSSOP-8/VSSOP-8; ki_fp_filters: SOIC*3.9x4.9mm*P1.27mm* DIP*W7.62mm* TO*99* OnSemi*Micro8* TSSOP*3x3mm*P0.65mm* TSSOP*4.4x3mm*P0.65mm* MSOP*3x3mm*P0.65mm* SSOP*3.9x4.9mm*P0.635mm* LFCSP*2x2mm*P0.5mm* *SIP* SOIC*5.3x6.2mm*P1.27mm*; Supplier: http://www.ti.com/lit/ds/symlink/lm358.pdf
part A pins: 1 (out), 2 - (in), 3 + (in)
part B pins: 5 + (in), 6 - (in), 7 (out)
part C pins: 4 V- (power), 8 V+ (power)

## LM4250
designator *  value LM4250
ki_keywords: Programmable opamp; ki_description: Programmable Operational Amplifier, DIP-8/SOIC-8; ki_fp_filters: DIP*W7.62mm* SOIC*3.9x4.9mm*P1.27mm* TO?5*; Supplier: http://www.ti.com/lit/ds/symlink/lm4250.pdf
pins: 1 NULL (in), 2 - (in), 3 + (in), 4 V- (power), 5 NULL (in), 6 (out), 7 V+ (power), 8 IQ (in)

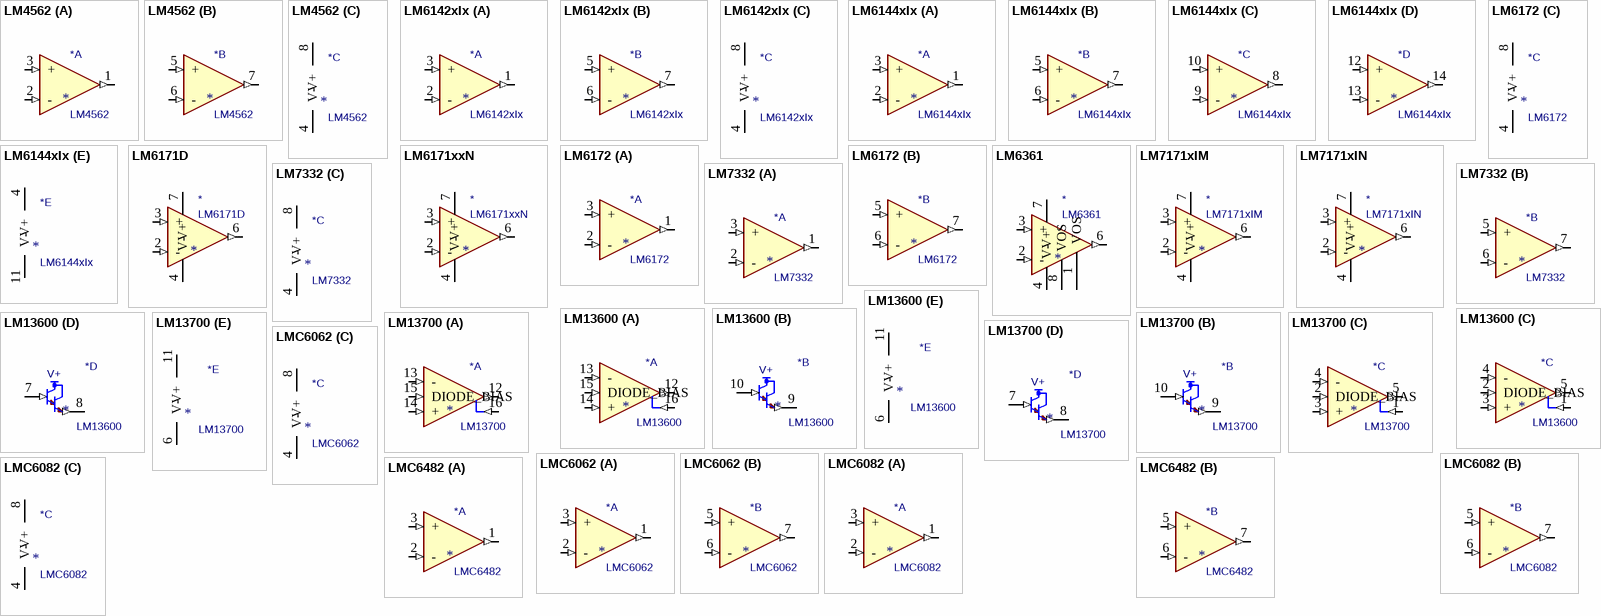
[diagram p3: symbols LM4562 to LMC6482]

## LM4562
designator *  value LM4562
ki_keywords: dual opamp; ki_description: Dual High-Performance, High-Fidelity Audio Operational Amplifier, DIP-8/SOIC-8/TO-99-8; ki_fp_filters: SOIC*3.9x4.9mm*P1.27mm* DIP*W7.62mm* TO*99* OnSemi*Micro8* TSSOP*3x3mm*P0.65mm* TSSOP*4.4x3mm*P0.65mm* MSOP*3x3mm*P0.65mm* SSOP*3.9x4.9mm*P0.635mm* LFCSP*2x2mm*P0.5mm* *SIP* SOIC*5.3x6.2mm*P1.27mm*; Supplier: http://www.ti.com/lit/ds/symlink/lm4562.pdf
part A pins: 1 (out), 2 - (in), 3 + (in)
part B pins: 5 + (in), 6 - (in), 7 (out)
part C pins: 4 V- (power), 8 V+ (power)

## LM6142xIx
designator *  value LM6142xIx
ki_keywords: dual opamp rail; ki_description: Dual Operational Amplifiers, 17MHz, DIP-8/SOIC-8; ki_fp_filters: SOIC*3.9x4.9mm*P1.27mm* DIP*W7.62mm*; Supplier: https://www.ti.com/lit/ds/symlink/lm6142.pdf
part A pins: 1 (out), 2 - (in), 3 + (in)
part B pins: 5 + (in), 6 - (in), 7 (out)
part C pins: 4 V- (power), 8 V+ (power)

## LM6144xIx
designator *  value LM6144xIx
ki_keywords: quad opamp rail; ki_description: Low-Power, Quad-Operational Amplifiers, 17MHz, DIP-14/SOIC-14; ki_fp_filters: SOIC*3.9x8.7mm*P1.27mm* DIP*W7.62mm*; Supplier: https://www.ti.com/lit/ds/symlink/lm6142.pdf
part A pins: 1 (out), 2 - (in), 3 + (in)
part B pins: 5 + (in), 6 - (in), 7 (out)
part C pins: 8 (out), 9 - (in), 10 + (in)
part D pins: 12 + (in), 13 - (in), 14 (out)
part E pins: 4 V+ (power), 11 V- (power)

## LM6171D
designator *  value LM6171D
ki_keywords: single opamp; ki_description: High Speed Low Power Low Distortion Voltage Feedback Amplifier, SOIC-8; ki_fp_filters: SOIC*3.9x4.9mm*P1.27mm*; Footprint: Package_SO:SOIC-8_3.9x4.9mm_P1.27mm; Supplier: http://www.ti.com/lit/ds/symlink/lm6171.pdf
footprint SOIC-8_3.9x4.9mm_P1.27mm
pins: 1 NC (in) hidden, 2 - (in), 3 + (in), 4 V- (power), 5 NC (in) hidden, 6 (out), 7 V+ (power), 8 NC (in) hidden

## LM6171xxN
designator *  value LM6171xxN
ki_keywords: single opamp; ki_description: Single High Speed Low Power Low Distortion Voltage Feedback Amplifier, DIP-8; ki_fp_filters: DIP*W7.62mm*; Footprint: Package_DIP:DIP-8_W7.62mm; Supplier: http://www.ti.com/lit/ds/symlink/lm6171.pdf
footprint DIP-8_W7.62mm
pins: 1 NC (in) hidden, 2 - (in), 3 + (in), 4 V- (power), 5 NC (in) hidden, 6 (out), 7 V+ (power), 8 NC (in) hidden

## LM6172
designator *  value LM6172
ki_keywords: dual opamp; ki_description: Dual High Speed, Low Power, Low Distortion, Voltage Feedback Amplifiers, DIP-8/SOIC-8; ki_fp_filters: SOIC*3.9x4.9mm*P1.27mm* DIP*W7.62mm* TO*99* OnSemi*Micro8* TSSOP*3x3mm*P0.65mm* TSSOP*4.4x3mm*P0.65mm* MSOP*3x3mm*P0.65mm* SSOP*3.9x4.9mm*P0.635mm* LFCSP*2x2mm*P0.5mm* *SIP* SOIC*5.3x6.2mm*P1.27mm*; Supplier: http://www.ti.com/lit/ds/symlink/lm6172.pdf
part A pins: 1 (out), 2 - (in), 3 + (in)
part B pins: 5 + (in), 6 - (in), 7 (out)
part C pins: 4 V- (power), 8 V+ (power)

## LM6361
designator *  value LM6361
ki_keywords: single opamp; ki_description: Single High Speed Operational Amplifier, DIP-8/SOIC-8; ki_fp_filters: SOIC*3.9x4.9mm*P1.27mm* DIP*W7.62mm*; Supplier: http://www.ti.com/lit/ds/symlink/lm6161.pdf
pins: 1 VOS, 2 - (in), 3 + (in), 4 V- (power), 5 NC (in) hidden, 6 (out), 7 V+ (power), 8 VOS

## LM7171xIM
designator *  value LM7171xIM
ki_keywords: single opamp; ki_description: Single Very High Speed High Output Current Voltage Feedback Amplifier, SOIC-8; ki_fp_filters: SOIC*3.9x4.9mm*P1.27mm*; Footprint: Package_SO:SOIC-8_3.9x4.9mm_P1.27mm; Supplier: https://www.ti.com/lit/ds/symlink/lm7171.pdf
footprint SOIC-8_3.9x4.9mm_P1.27mm
pins: 1 NC (in) hidden, 2 - (in), 3 + (in), 4 V- (power), 5 NC (in) hidden, 6 (out), 7 V+ (power), 8 NC (in) hidden

## LM7171xIN
designator *  value LM7171xIN
ki_keywords: single opamp; ki_description: Single Very High Speed High Output Current Voltage Feedback Amplifier, DIP-8; ki_fp_filters: DIP*W7.62mm*; Footprint: Package_DIP:DIP-8_W7.62mm; Supplier: https://www.ti.com/lit/ds/symlink/lm7171.pdf
footprint DIP-8_W7.62mm
pins: 1 NC (in) hidden, 2 - (in), 3 + (in), 4 V- (power), 5 NC (in) hidden, 6 (out), 7 V+ (power), 8 NC (in) hidden

## LM7332
designator *  value LM7332
ki_keywords: dual opamp; ki_description: Dual Rail-to-Rail Input and Output 30-V, Wide Voltage Range, High Output, Operational Amplifier, SOIC-8/SSOP-8; ki_fp_filters: SOIC*3.9x4.9mm*P1.27mm* DIP*W7.62mm* TO*99* OnSemi*Micro8* TSSOP*3x3mm*P0.65mm* TSSOP*4.4x3mm*P0.65mm* MSOP*3x3mm*P0.65mm* SSOP*3.9x4.9mm*P0.635mm* LFCSP*2x2mm*P0.5mm* *SIP* SOIC*5.3x6.2mm*P1.27mm*; Supplier: http://www.ti.com/lit/ds/symlink/lm7332.pdf
part A pins: 1 (out), 2 - (in), 3 + (in)
part B pins: 5 + (in), 6 - (in), 7 (out)
part C pins: 4 V- (power), 8 V+ (power)

## LM13600
designator *  value LM13600
ki_keywords: operational transconductance amplifier OTA; ki_description: Dual Operational Transconductance Amplifiers with Linearizing Diodes and Buffers, DIP-16/SOIC-16; ki_fp_filters: SOIC*3.9x9.9mm*P1.27mm* DIP*W7.62mm*; Supplier: http://pdf.datasheetcatalog.com/datasheet/nationalsemiconductor/DS007980.PDF
part A pins: 12 (out), 13 - (in), 14 + (in), 15 DIODE_BIAS (in), 16 (in)
part B pins: 9 (out), 10 (in)
part C pins: 1 (in), 2 DIODE_BIAS (in), 3 + (in), 4 - (in), 5 (out)
part D pins: 7 (in), 8 (out)
part E pins: 6 V- (power), 11 V+ (power)

## LM13700
designator *  value LM13700
ki_keywords: operational transconductance amplifier OTA; ki_description: Dual Operational Transconductance Amplifiers with Linearizing Diodes and Buffers, DIP-16/SOIC-16; ki_fp_filters: SOIC*3.9x9.9mm*P1.27mm* DIP*W7.62mm*; Supplier: http://www.ti.com/lit/ds/symlink/lm13700.pdf
part A pins: 12 (out), 13 - (in), 14 + (in), 15 DIODE_BIAS (in), 16 (in)
part B pins: 9 (out), 10 (in)
part C pins: 1 (in), 2 DIODE_BIAS (in), 3 + (in), 4 - (in), 5 (out)
part D pins: 7 (in), 8 (out)
part E pins: 6 V- (power), 11 V+ (power)

## LMC6062
designator *  value LMC6062
ki_keywords: dual opamp; ki_description: Precision CMOS Dual Micropower Operational Amplifier, DIP-8/SOIC-8; ki_fp_filters: SOIC*3.9x4.9mm*P1.27mm* DIP*W7.62mm* TO*99* OnSemi*Micro8* TSSOP*3x3mm*P0.65mm* TSSOP*4.4x3mm*P0.65mm* MSOP*3x3mm*P0.65mm* SSOP*3.9x4.9mm*P0.635mm* LFCSP*2x2mm*P0.5mm* *SIP* SOIC*5.3x6.2mm*P1.27mm*; Supplier: http://www.ti.com/lit/ds/symlink/lmc6062.pdf
part A pins: 1 (out), 2 - (in), 3 + (in)
part B pins: 5 + (in), 6 - (in), 7 (out)
part C pins: 4 V- (power), 8 V+ (power)

## LMC6082
designator *  value LMC6082
ki_keywords: dual opamp; ki_description: Precision CMOS Dual Operational Amplifier, DIP-8/SOIC-8; ki_fp_filters: SOIC*3.9x4.9mm*P1.27mm* DIP*W7.62mm* TO*99* OnSemi*Micro8* TSSOP*3x3mm*P0.65mm* TSSOP*4.4x3mm*P0.65mm* MSOP*3x3mm*P0.65mm* SSOP*3.9x4.9mm*P0.635mm* LFCSP*2x2mm*P0.5mm* *SIP* SOIC*5.3x6.2mm*P1.27mm*; Supplier: http://www.ti.com/lit/ds/symlink/lmc6082.pdf
part A pins: 1 (out), 2 - (in), 3 + (in)
part B pins: 5 + (in), 6 - (in), 7 (out)
part C pins: 4 V- (power), 8 V+ (power)

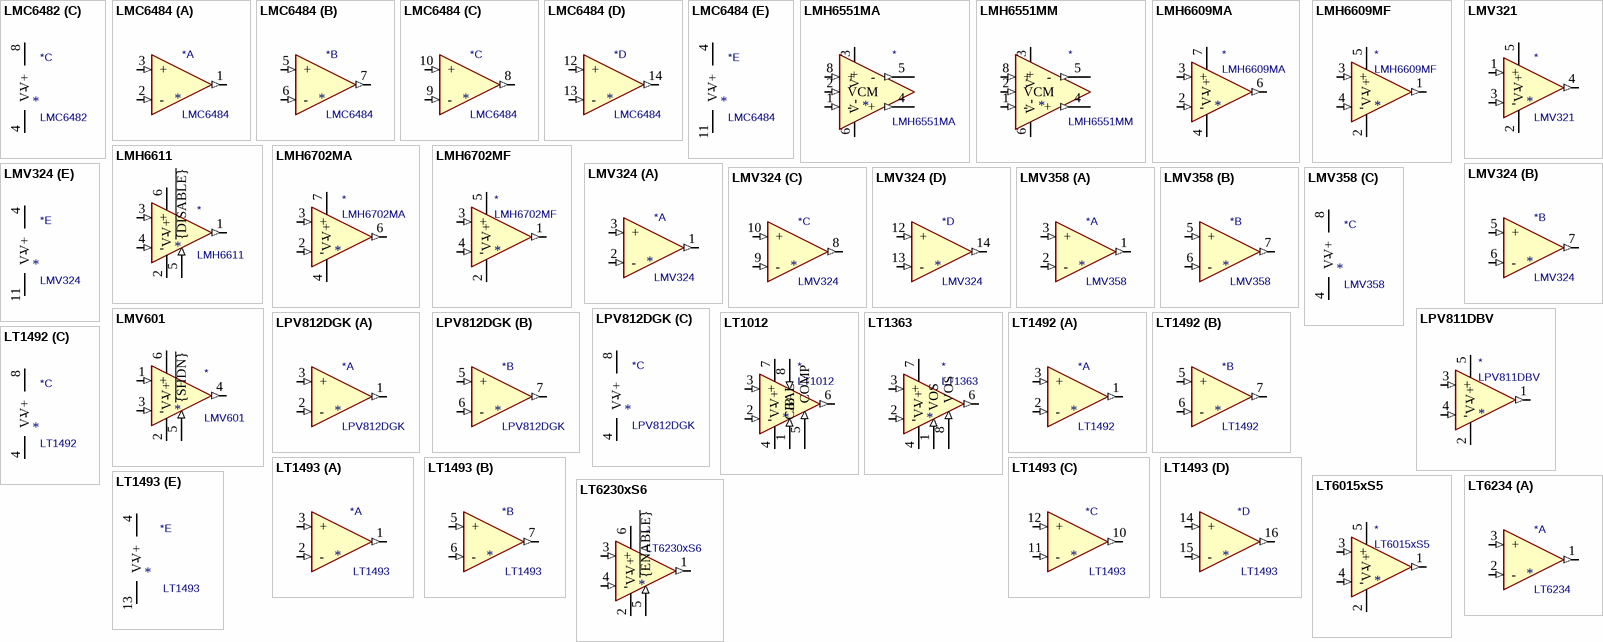
[diagram p4: symbols LMC6482 to LT6234]

## LMC6482
designator *  value LMC6482
ki_keywords: dual opamp; ki_description: Dual CMOS Rail-to-Rail Input and Output Operational Amplifier, DIP-8/SOIC-8, SSOP-8; ki_fp_filters: SOIC*3.9x4.9mm*P1.27mm* DIP*W7.62mm* TO*99* OnSemi*Micro8* TSSOP*3x3mm*P0.65mm* TSSOP*4.4x3mm*P0.65mm* MSOP*3x3mm*P0.65mm* SSOP*3.9x4.9mm*P0.635mm* LFCSP*2x2mm*P0.5mm* *SIP* SOIC*5.3x6.2mm*P1.27mm*; Supplier: http://www.ti.com/lit/ds/symlink/lmc6482.pdf
part A pins: 1 (out), 2 - (in), 3 + (in)
part B pins: 5 + (in), 6 - (in), 7 (out)
part C pins: 4 V- (power), 8 V+ (power)

## LMC6484
designator *  value LMC6484
ki_keywords: quad opamp; ki_description: Quad CMOS Rail-to-Rail Input and Output Operational Amplifier, DIP-14/SOIC-14; ki_fp_filters: SOIC*3.9x8.7mm*P1.27mm* DIP*W7.62mm* TSSOP*4.4x5mm*P0.65mm* SSOP*5.3x6.2mm*P0.65mm* MSOP*3x3mm*P0.5mm*; Supplier: http://www.ti.com/lit/ds/symlink/lmc6484.pdf
part A pins: 1 (out), 2 - (in), 3 + (in)
part B pins: 5 + (in), 6 - (in), 7 (out)
part C pins: 8 (out), 9 - (in), 10 + (in)
part D pins: 12 + (in), 13 - (in), 14 (out)
part E pins: 4 V+ (power), 11 V- (power)

## LMH6551MA
designator *  value LMH6551MA
ki_keywords: differential opamp operational amplifier; ki_description: Differential, High-Speed, Op Amp, SOIC-8; ki_fp_filters: SOIC*3.9x4.9mm*P1.27mm*; Footprint: Package_SO:SOIC-8_3.9x4.9mm_P1.27mm; Supplier: http://www.ti.com/lit/ds/symlink/lmh6551.pdf
footprint SOIC-8_3.9x4.9mm_P1.27mm
pins: 1 - (in), 2 VCM (in), 3 V+ (power), 4 + (out), 5 - (out), 6 V- (power), 7 NC (in) hidden, 8 + (in)

## LMH6551MM
designator *  value LMH6551MM
ki_keywords: differential opamp operational amplifier; ki_description: Differential, High-Speed, Op Amp, VSSOP-8; ki_fp_filters: VSSOP*3.0x3.0mm*P0.65mm*; Footprint: Package_SO:VSSOP-8_3.0x3.0mm_P0.65mm; Supplier: http://www.ti.com/lit/ds/symlink/lmh6551.pdf
footprint VSSOP-8_3.0x3.0mm_P0.65mm
pins: 1 - (in), 2 VCM (in), 3 V+ (power), 4 + (out), 5 - (out), 6 V- (power), 7 NC (in) hidden, 8 + (in)

## LMH6609MA
designator *  value LMH6609MA
ki_keywords: opamp single wideband unity-gain stable; ki_description: 900MHz Voltage Feedback Op Amp, SOIC-8; ki_fp_filters: SOIC*3.9x4.9mm*P1.27mm*; Footprint: Package_SO:SOIC-8_3.9x4.9mm_P1.27mm; Supplier: http://www.ti.com/lit/ds/symlink/lmh6609.pdf
footprint SOIC-8_3.9x4.9mm_P1.27mm
pins: 1 NC (in) hidden, 2 - (in), 3 + (in), 4 V- (power), 5 NC (in) hidden, 6 (out), 7 V+ (power), 8 NC (in) hidden

## LMH6609MF
designator *  value LMH6609MF
ki_keywords: opamp single wideband unity-gain stable; ki_description: 900MHz Voltage Feedback Op Amp, SOT-23-5; ki_fp_filters: SOT?23*; Footprint: Package_TO_SOT_SMD:SOT-23-5; Supplier: http://www.ti.com/lit/ds/symlink/lmh6609.pdf
footprint SOT-23-5
pins: 1 (out), 2 V- (power), 3 + (in), 4 - (in), 5 V+ (power)

## LMH6611
designator *  value LMH6611
ki_keywords: opamp operational amplifier single; ki_description: Single Supply, 345 MHz, Rail-to-Rail Output, Amplifier, TSOT-23-6; ki_fp_filters: TSOT*23*; Footprint: Package_TO_SOT_SMD:TSOT-23-6; Supplier: http://www.ti.com/lit/ds/symlink/lmh6612.pdf
footprint TSOT-23-6
pins: 1 (out), 2 V- (power), 3 + (in), 4 - (in), 5 ~{{DISABLE}} (in), 6 V+ (power)

## LMH6702MA
designator *  value LMH6702MA
ki_keywords: opamp single low distortion wideband; ki_description: 1.7 GHz Ultra-Low Distortion Wideband Op Amp, SOIC-8; ki_fp_filters: SOIC*3.9x4.9mm*P1.27mm*; Footprint: Package_SO:SOIC-8_3.9x4.9mm_P1.27mm; Supplier: http://www.ti.com/lit/ds/symlink/lmh6702.pdf
footprint SOIC-8_3.9x4.9mm_P1.27mm
pins: 1 NC (in) hidden, 2 - (in), 3 + (in), 4 V- (power), 5 NC (in) hidden, 6 (out), 7 V+ (power), 8 NC (in) hidden

## LMH6702MF
designator *  value LMH6702MF
ki_keywords: opamp single low distortion wideband; ki_description: 1.7 GHz Ultra-Low Distortion Wideband Op Amp, SOT-23-5; ki_fp_filters: SOT?23*; Footprint: Package_TO_SOT_SMD:SOT-23-5; Supplier: http://www.ti.com/lit/ds/symlink/lmh6702.pdf
footprint SOT-23-5
pins: 1 (out), 2 V- (power), 3 + (in), 4 - (in), 5 V+ (power)

## LMV321
designator *  value LMV321
ki_keywords: single opamp; ki_description: Low-Voltage Rail-to-Rail Output Operational Amplifiers, SOT-23-5/SC-70-5; ki_fp_filters: SOT?23* *SC*70*; Supplier: http://www.ti.com/lit/ds/symlink/lmv324.pdf
pins: 1 + (in), 2 V- (power), 3 - (in), 4 (out), 5 V+ (power)

## LMV324
designator *  value LMV324
ki_keywords: quad opamp; ki_description: Quad Low-Voltage Rail-to-Rail Output Operational Amplifier, SOIC-14/SSOP-14; ki_fp_filters: SOIC*3.9x8.7mm*P1.27mm* DIP*W7.62mm* TSSOP*4.4x5mm*P0.65mm* SSOP*5.3x6.2mm*P0.65mm* MSOP*3x3mm*P0.5mm*; Supplier: http://www.ti.com/lit/ds/symlink/lmv324.pdf
part A pins: 1 (out), 2 - (in), 3 + (in)
part B pins: 5 + (in), 6 - (in), 7 (out)
part C pins: 8 (out), 9 - (in), 10 + (in)
part D pins: 12 + (in), 13 - (in), 14 (out)
part E pins: 4 V+ (power), 11 V- (power)

## LMV358
designator *  value LMV358
ki_keywords: single opamp; ki_description: Dual Low-Voltage Rail-to-Rail Output Operational Amplifiers, SOIC-8/SSOP-8; ki_fp_filters: SOIC*3.9x4.9mm*P1.27mm* DIP*W7.62mm* TO*99* OnSemi*Micro8* TSSOP*3x3mm*P0.65mm* TSSOP*4.4x3mm*P0.65mm* MSOP*3x3mm*P0.65mm* SSOP*3.9x4.9mm*P0.635mm* LFCSP*2x2mm*P0.5mm* *SIP* SOIC*5.3x6.2mm*P1.27mm*; Supplier: http://www.ti.com/lit/ds/symlink/lmv324.pdf
part A pins: 1 (out), 2 - (in), 3 + (in)
part B pins: 5 + (in), 6 - (in), 7 (out)
part C pins: 4 V- (power), 8 V+ (power)

## LMV601
designator *  value LMV601
ki_keywords: single opamp; ki_description: 1MHz, Low-Power, General-Purpose, 2.7V Operational Amplifiers, SC-70-6; ki_fp_filters: *SC*70*; Footprint: Package_TO_SOT_SMD:SOT-363_SC-70-6; Supplier: http://www.ti.com/lit/ds/symlink/lmv601.pdf
footprint SOT-363_SC-70-6
pins: 1 + (in), 2 V- (power), 3 - (in), 4 (out), 5 ~{{SHDN}} (in), 6 V+ (power)

## LPV811DBV
designator *  value LPV811DBV
ki_keywords: single opamp low-power rail-to-rail; ki_description: Single operational amplifier, 8kHz GBW, 425 nA/channel quiescent, 100 fA input bias, 300 uV offset max, 1 uV/C, SOT-23-5; ki_fp_filters: SOT?23*; Footprint: Package_TO_SOT_SMD:SOT-23-5; Supplier: https://www.ti.com/lit/ds/symlink/lpv812.pdf
footprint SOT-23-5
pins: 1 (out), 2 V- (power), 3 + (in), 4 - (in), 5 V+ (power)

## LPV812DGK
designator *  value LPV812DGK
ki_keywords: dual opamp low-power rail-to-rail; ki_description: Dual operational amplifier, 8kHz GBW, 425 nA/channel quiescent, 100 fA input bias, 300 uV offset max, 1 uV/C, VSSOP-8; ki_fp_filters: VSSOP*3.0x3.0mm*P0.65mm*; Footprint: Package_SO:VSSOP-8_3.0x3.0mm_P0.65mm; Supplier: https://www.ti.com/lit/ds/symlink/lpv812.pdf
footprint VSSOP-8_3.0x3.0mm_P0.65mm
part A pins: 1 (out), 2 - (in), 3 + (in)
part B pins: 5 + (in), 6 - (in), 7 (out)
part C pins: 4 V- (power), 8 V+ (power)

## LT1012
designator *  value LT1012
ki_keywords: single opamp; ki_description: Single Picoamp Input Current, Microvolt Offset, Low Noise Op Amp, DIP-8/SOIC-8/TO-5-8; ki_fp_filters: DIP*W7.62mm* SOIC*3.9x4.9mm*P1.27mm* TO?5*; Supplier: https://www.analog.com/media/en/technical-documentation/data-sheets/lt1012.pdf
pins: 1 BAL (in), 2 - (in), 3 + (in), 4 V- (power), 5 COMP (in), 6 (out), 7 V+ (power), 8 C/B (in)

## LT1363
designator *  value LT1363
ki_keywords: single opamp; ki_description: 70MHz, 1000V/µs Operational Amplifier, DIP-8/SOIC-8; ki_fp_filters: DIP*W7.62mm* SOIC*3.9x4.9mm*P1.27mm* TO*99*; Supplier: https://www.analog.com/media/en/technical-documentation/data-sheets/1363fa.pdf
pins: 1 VOS (in), 2 - (in), 3 + (in), 4 V- (power), 5 NC (in) hidden, 6 (out), 7 V+ (power), 8 VOS (in)

## LT1492
designator *  value LT1492
ki_keywords: dual opamp; ki_description: 5MHz, 3V/µs, Low Power, Single Supply, Dual Precision Op Amps, DIP-8/SOIC-8; ki_fp_filters: SOIC*3.9x4.9mm*P1.27mm* DIP*W7.62mm* TO*99* OnSemi*Micro8* TSSOP*3x3mm*P0.65mm* TSSOP*4.4x3mm*P0.65mm* MSOP*3x3mm*P0.65mm* SSOP*3.9x4.9mm*P0.635mm* LFCSP*2x2mm*P0.5mm* *SIP* SOIC*5.3x6.2mm*P1.27mm*; Supplier: https://www.analog.com/media/en/technical-documentation/data-sheets/14923f.pdf
part A pins: 1 (out), 2 - (in), 3 + (in)
part B pins: 5 + (in), 6 - (in), 7 (out)
part C pins: 4 V- (power), 8 V+ (power)

## LT1493
designator *  value LT1493
ki_keywords: quad opamp; ki_description: 5MHz, 3V/µs, Low Power, Single Supply, Quad Precision Op Amps, SOIC-16; ki_fp_filters: SSOP*3.9x4.9mm*P0.635mm* SOIC*3.9x9.9mm*P1.27mm* QSOP*3.9x4.9mm*P0.635mm*; Supplier: https://www.analog.com/media/en/technical-documentation/data-sheets/14923f.pdf
part A pins: 1 (out), 2 - (in), 3 + (in), 8 NC (in) hidden, 9 NC (in) hidden
part B pins: 5 + (in), 6 - (in), 7 (out)
part C pins: 10 (out), 11 - (in), 12 + (in)
part D pins: 14 + (in), 15 - (in), 16 (out)
part E pins: 4 V+ (power), 13 V- (power)

## LT6015xS5
designator *  value LT6015xS5
ki_keywords: single opamp; ki_description: 3.2MHz, 0.8V/us, Low Power, Over-The-Top Precision Op Amp, SOT-23-5; ki_fp_filters: SOT?23*; Footprint: Package_TO_SOT_SMD:SOT-23-5; Supplier: https://www.analog.com/media/en/technical-documentation/data-sheets/601567ff.pdf
footprint SOT-23-5
pins: 1 (out), 2 V- (power), 3 + (in), 4 - (in), 5 V+ (power)

## LT6230xS6
designator *  value LT6230xS6
ki_keywords: opamp operational amplifier single; ki_description: 215 MHz, Rail-to-Rail Output, Amplifier, TSOT-23-6; ki_fp_filters: TSOT*23*; Footprint: Package_TO_SOT_SMD:TSOT-23-6; Supplier: https://www.analog.com/media/en/technical-documentation/data-sheets/623012fc.pdf
footprint TSOT-23-6
pins: 1 (out), 2 V- (power), 3 + (in), 4 - (in), 5 ~{{ENABLE}} (in), 6 V+ (power)

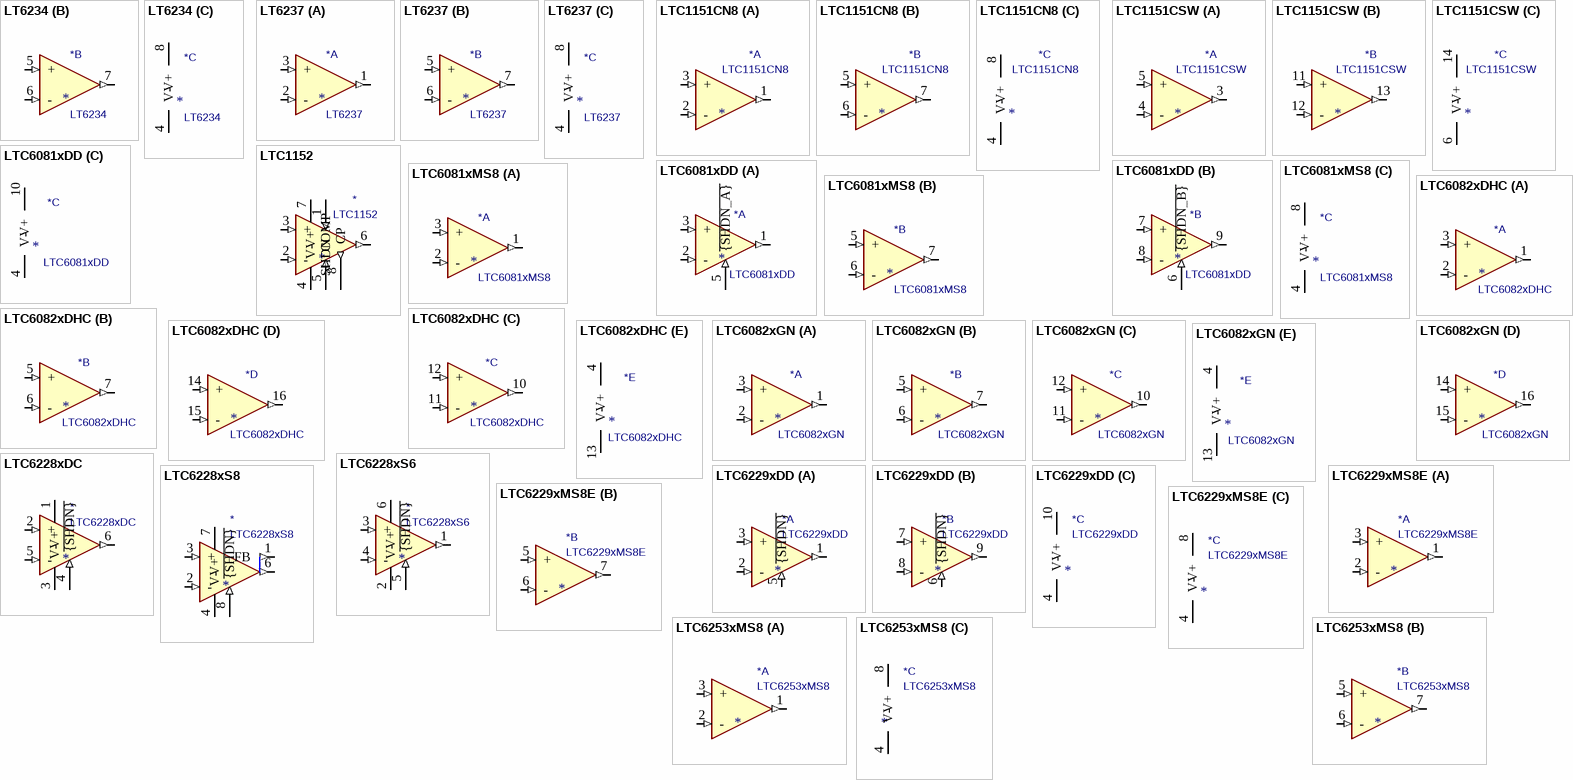
[diagram p5: symbols LT6234 to LTC6253xMS8]

## LT6234
designator *  value LT6234
ki_keywords: dual opamp; ki_description: Dual 60MHz, Rail-to-Rail Output, 1.9nV/√Hz, 1.2mA, Operational Amplifier, SOIC-8; ki_fp_filters: SOIC*3.9x4.9mm*P1.27mm* DIP*W7.62mm* TO*99* OnSemi*Micro8* TSSOP*3x3mm*P0.65mm* TSSOP*4.4x3mm*P0.65mm* MSOP*3x3mm*P0.65mm* SSOP*3.9x4.9mm*P0.635mm* LFCSP*2x2mm*P0.5mm* *SIP* SOIC*5.3x6.2mm*P1.27mm*; Supplier: https://www.analog.com/media/en/technical-documentation/data-sheets/623345fc.pdf
part A pins: 1 (out), 2 - (in), 3 + (in)
part B pins: 5 + (in), 6 - (in), 7 (out)
part C pins: 4 V- (power), 8 V+ (power)

## LT6237
designator *  value LT6237
ki_keywords: dual opamp; ki_description: Dual 215MHz, Rail-to-Rail Output, 1.1nV/√Hz, 3.5mA, Operational Amplifier, MSOP-8/DFN-8; ki_fp_filters: SOIC*3.9x4.9mm*P1.27mm* DIP*W7.62mm* TO*99* OnSemi*Micro8* TSSOP*3x3mm*P0.65mm* TSSOP*4.4x3mm*P0.65mm* MSOP*3x3mm*P0.65mm* SSOP*3.9x4.9mm*P0.635mm* LFCSP*2x2mm*P0.5mm* *SIP* SOIC*5.3x6.2mm*P1.27mm*; Supplier: https://www.analog.com/media/en/technical-documentation/data-sheets/623637fb.pdf
part A pins: 1 (out), 2 - (in), 3 + (in)
part B pins: 5 + (in), 6 - (in), 7 (out)
part C pins: 4 V- (power), 8 V+ (power)

## LTC1151CN8
designator *  value LTC1151CN8
ki_keywords: dual opamp; ki_description: Dual ±15V, Zero-Drift, Operational Amplifier, DIP-8; ki_fp_filters: DIP*W7.62mm*; Footprint: Package_DIP:DIP-8_W7.62mm; Supplier: https://www.analog.com/media/en/technical-documentation/data-sheets/1151fa.pdf
footprint DIP-8_W7.62mm
part A pins: 1 (out), 2 - (in), 3 + (in)
part B pins: 5 + (in), 6 - (in), 7 (out)
part C pins: 4 V- (power), 8 V+ (power)

## LTC1151CSW
designator *  value LTC1151CSW
ki_keywords: dual opamp; ki_description: Dual ±15V, Zero-Drift, Operational Amplifier, SOIC-16W; ki_fp_filters: SOIC*7.5x10.3mm*P1.27mm*; Footprint: Package_SO:SOIC-16W_7.5x10.3mm_P1.27mm; Supplier: https://www.analog.com/media/en/technical-documentation/data-sheets/1151fa.pdf
footprint SOIC-16W_7.5x10.3mm_P1.27mm
part A pins: 1 NC (in) hidden, 2 NC (in) hidden, 3 (out), 4 - (in), 5 + (in), 7 NC (in) hidden, 8 NC (in) hidden
part B pins: 9 NC (in) hidden, 10 NC (in) hidden, 11 + (in), 12 - (in), 13 (out), 15 NC (in) hidden, 16 NC (in) hidden
part C pins: 6 V- (power), 14 V+ (power)

## LTC1152
designator *  value LTC1152
ki_keywords: single opamp; ki_description: Rail-to-Rail Input, Rail-to-Rail Output, Zero-Drift Op Amp, DIP-8, SOIC-8; ki_fp_filters: SOIC*3.9x4.9mm*P1.27mm* DIP*W7.62mm*; Supplier: https://www.analog.com/media/en/technical-documentation/data-sheets/lt1152.pdf
pins: 1 SHDN (in), 2 - (in), 3 + (in), 4 V- (power), 5 COMP (in), 6 (out), 7 V+ (power), 8 CP (out)

## LTC6081xDD
designator *  value LTC6081xDD
ki_keywords: dual opamp; ki_description: Precision Dual CMOS Rail-to-Rail Input/Output Amplifiers, DFN-10; ki_fp_filters: DFN*3x3mm*P0.5mm*; Footprint: Package_DFN_QFN:DFN-10-1EP_3x3mm_P0.5mm_EP1.55x2.48mm; Supplier: https://www.analog.com/media/en/technical-documentation/data-sheets/60812fd.pdf
footprint DFN-10-1EP_3x3mm_P0.5mm_EP1.55x2.48mm
part A pins: 1 (out), 2 - (in), 3 + (in), 5 ~{{SHDN_A}} (in)
part B pins: 6 ~{{SHDN_B}} (in), 7 + (in), 8 - (in), 9 (out)
part C pins: 4 V- (power), 10 V+ (power), 11 V- hidden

## LTC6081xMS8
designator *  value LTC6081xMS8
ki_keywords: dual opamp; ki_description: Precision Dual CMOS Rail-to-Rail Input/Output Amplifiers, MSOP-8; ki_fp_filters: SOIC*3.9x4.9mm*P1.27mm* DIP*W7.62mm* TO*99* OnSemi*Micro8* TSSOP*3x3mm*P0.65mm* TSSOP*4.4x3mm*P0.65mm* MSOP*3x3mm*P0.65mm* SSOP*3.9x4.9mm*P0.635mm* LFCSP*2x2mm*P0.5mm* *SIP* SOIC*5.3x6.2mm*P1.27mm*; Supplier: https://www.analog.com/media/en/technical-documentation/data-sheets/60812fd.pdf
part A pins: 1 (out), 2 - (in), 3 + (in)
part B pins: 5 + (in), 6 - (in), 7 (out)
part C pins: 4 V- (power), 8 V+ (power)